# Altium footprint library REG104FA-3P3&slash_500.PcbLib: 3 footprints
Each footprint in its own frame and in the unit in brackets; x right, y up, seen from the top. Pads: shape width x height; smd on the part's side, far side on the other; paste and mask are expansions set on the pad; w line width, h text height; cw(c..) or ccw(c..) is an arc to the next point about the centre after c.
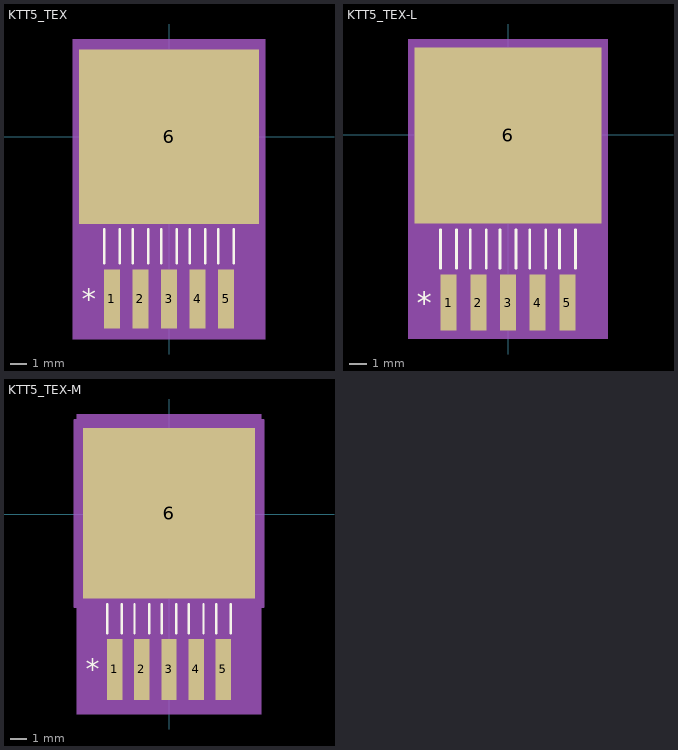
[diagram p0: the footprints below, top view; thin cyan lines are the x and y axes]

## KTT5_TEX [mil]
pads (6):
  rect 38x138 smd paste+0 mask+0: 1(-133.86,-380) 2(-66.93,-380) 3(0,-380) 4(66.93,-380) 5(133.86,-380)
  rect 422x408 smd paste+0 mask+0: 6(0,0)
Top Overlay:
  lines w6: -151.86,-297 -151.86,-217.1 ; -115.86,-297 -115.86,-217.1 ; -84.93,-297 -84.93,-217.1 ; -48.93,-297 -48.93,-217.1 ; -18,-297 -18,-217.1 ; 18,-297 18,-217.1 ; 48.93,-297 48.93,-217.1 ; 84.93,-297 84.93,-217.1 ; 115.86,-297 115.86,-217.1 ; 151.86,-297 151.86,-217.1
  text "*" at -204.82,-405 h50
Mechanical 5:
  region: -226,229 226,229 226,-474 -226,-474
Mechanical 13:
  lines w1: -210,-190 210,-190 210,190 -210,190 -210,-190 ; -151.86,-435 -151.86,-190 -115.86,-190 -115.86,-435 -151.86,-435 ; -84.93,-435 -84.93,-190 -48.93,-190 -48.93,-435 -84.93,-435 ; -18,-435 -18,-190 18,-190 18,-435 -18,-435 ; 48.93,-435 48.93,-190 84.93,-190 84.93,-435 48.93,-435 ; 115.86,-435 115.86,-190 151.86,-190 151.86,-435 115.86,-435
  text "*" at -146.36,-205 h50
Mechanical 15:
  region: -162.86,-214 -221,-214 -221,214 221,214 221,-214 162.86,-214 162.86,-459 -162.86,-459
  lines w6: -221,-214 -221,214 221,214 221,-214 162.86,-214 162.86,-459 -162.86,-459 -162.86,-214 -221,-214
3D body "KTT5_TEX.step": height 67.09, standoff -2.01, extent -210,-292.52 210,190.12

## KTT5_TEX-L [mil]
pads (6):
  rect 36x126 smd paste+0 mask+0: 1(-133.86,-378) 2(-66.93,-378) 3(0,-378) 4(66.93,-378) 5(133.86,-378)
  rect 420x396 smd paste+0 mask+0: 6(0,-2)
Top Overlay:
  lines w6: -151.86,-301 -151.86,-214 ; -115.86,-301 -115.86,-214 ; -84.93,-301 -84.93,-214 ; -48.93,-301 -48.93,-214 ; -18,-301 -18,-214 ; 18,-301 18,-214 ; 48.93,-301 48.93,-214 ; 84.93,-301 84.93,-214 ; 115.86,-301 115.86,-214 ; 151.86,-301 151.86,-214
  text "*" at -204.82,-403 h50
Mechanical 5:
  region: -225,215 225,215 225,-460 -225,-460
Mechanical 13:
  lines w1: -210,-190 210,-190 210,190 -210,190 -210,-190 ; -151.86,-435 -151.86,-190 -115.86,-190 -115.86,-435 -151.86,-435 ; -84.93,-435 -84.93,-190 -48.93,-190 -48.93,-435 -84.93,-435 ; -18,-435 -18,-190 18,-190 18,-435 -18,-435 ; 48.93,-435 48.93,-190 84.93,-190 84.93,-435 48.93,-435 ; 115.86,-435 115.86,-190 151.86,-190 151.86,-435 115.86,-435
  text "*" at -146.36,-205 h50
Mechanical 15:
  region: -155.86,-204 -214,-204 -214,200 214,200 214,-204 155.86,-204 155.86,-445 -155.86,-445
  lines w6: -214,-204 -214,200 214,200 214,-204 155.86,-204 155.86,-445 -155.86,-445 -155.86,-204 -214,-204
3D body "KTT5_TEX.step": height 67.09, standoff -2.01, extent -210,-292.52 210,190.12

## KTT5_TEX-M [mil]
pads (6):
  rect 38x150 smd paste+0 mask+0: 1(-133.86,-382) 2(-66.93,-382) 3(0,-382) 4(66.93,-382) 5(133.86,-382)
  rect 424x420 smd paste+0 mask+0: 6(0,2)
Top Overlay:
  lines w6: -151.86,-293 -151.86,-221.1 ; -115.86,-293 -115.86,-221.1 ; -84.93,-293 -84.93,-221.1 ; -48.93,-293 -48.93,-221.1 ; -18,-293 -18,-221.1 ; 18,-293 18,-221.1 ; 48.93,-293 48.93,-221.1 ; 84.93,-293 84.93,-221.1 ; 115.86,-293 115.86,-221.1 ; 151.86,-293 151.86,-221.1
  text "*" at -204.82,-407 h50
Mechanical 5:
  region: -227,247 227,247 227,-492 -227,-492
Mechanical 13:
  lines w1: -210,-190 210,-190 210,190 -210,190 -210,-190 ; -151.86,-435 -151.86,-190 -115.86,-190 -115.86,-435 -151.86,-435 ; -84.93,-435 -84.93,-190 -48.93,-190 -48.93,-435 -84.93,-435 ; -18,-435 -18,-190 18,-190 18,-435 -18,-435 ; 48.93,-435 48.93,-190 84.93,-190 84.93,-435 48.93,-435 ; 115.86,-435 115.86,-190 151.86,-190 151.86,-435 115.86,-435
  text "*" at -146.36,-205 h50
Mechanical 15:
  region: -172.86,-228 -232,-228 -232,232 232,232 232,-228 172.86,-228 172.86,-477 -172.86,-477
  lines w6: -232,-228 -232,232 232,232 232,-228 172.86,-228 172.86,-477 -172.86,-477 -172.86,-228 -232,-228
3D body "KTT5_TEX.step": height 67.09, standoff -2.01, extent -210,-292.52 210,190.12